# Altium schematic symbol library Würth-Elektronik.SchLib: 1 symbol
Pins are listed as number, name and electrical type; pins without a type are passive.

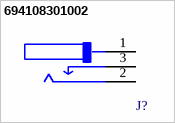
[diagram p0: symbol 694108301002]

## 694108301002
designator J?  (value not drawn)
pins: 1, 2, 3